# Altium integrated library 826936-3.IntLib: 1 symbol
Pins are listed as number, name and electrical type; pins without a type are passive.

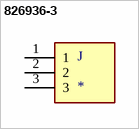
[diagram p0: symbol 826936-3]

## 826936-3
designator J
Connector Header Through Hole 3 position 0.100 (2.54mm); MP: 826936-3; MF: TE Connectivity; SnapEDA_Link: https://www.snapeda.com/parts/826936-3/TE%20Connectivity%20AMP%20Connectors/view-part/2390122/?ref=snap; Value: *; Price: None; EU_RoHS_Compliance: Compliant; Package: None; Availability: Unavailable
footprint TE_826936-3
pins: 1, 2, 3